# Altium integrated library Logic - Translators, Level Shifters.IntLib: 4 symbols
Pins are listed as number, name and electrical type; pins without a type are passive.

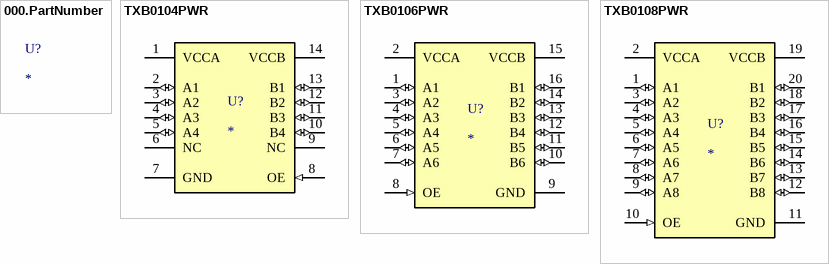
[diagram p0: symbols 000.PartNumber to TXB0108PWR]

## 000.PartNumber
designator U?
Digikey Description; Manufacturer: *; Series: *; Package: *; Translator Type: *; Channel Type: *; Channels per Circuit: *; Input Signal: *; Output Signal: *; Output Type: *; Data Rate: *; Operating Temperature: *; Features: *; Mounting Type: *; Package / Case: *; Supplier Device Package: *; Number of Circuits: *; Voltage - VCCA: *; Voltage - VCCB: *; Base Product Number: *; Ozdisan Link: *; Digikey Link: *; Farnell TR Link: *; Mouser Link: *

## TXB0104PWR
designator U?
IC TRNSLTR BIDIRECTIONAL 14TSSOP; Manufacturer: Texas Instruments; Translator Type: Voltage Level; Channels per Circuit: 4; Output Type: Tri-State, Non-Inverted; Data Rate: 100Mbps; Number of Circuits: 1; Voltage - VCCA: 1.2V ~ 3.6V; Voltage - VCCB: 1.65V ~ 5.5V; Base Product Number: TXB010; Series: -; Package: Tape & Reel (TR); Channel Type: Bidirectional; Input Signal: -; Output Signal: -; Operating Temperature: -40°C ~ 85°C (TA); Features: Auto-Direction Sensing; Mounting Type: Surface Mount; Package / Case: 14-TSSOP (0.173"", 4.40mm Width); Supplier Device Package: 14-TSSOP; Ozdisan Link: https://www.ozdisan.com/entegre-devreler-ics/logic-entegreler/translator-entegreleri/TXB0104PWR; Digikey Link: https://www.digikey.com/en/products/detail/texas-instruments/TXB0104PWR/1629102; Farnell TR Link: https://tr.farnell.com/texas-instruments/txb0104pwr/ic-sm-logic-translator/dp/3120964?st=txb0104pwr; Mouser Link: https://www.mouser.com.tr/ProductDetail/Texas-Instruments/TXB0104PWR?qs=oFXvjAmG9EjSF69GpMWq5w%3D%3D
footprint TI_14-TSSOP
pins: 1 VCCA, 2 A1 (io), 3 A2 (io), 4 A3 (io), 5 A4 (io), 6 NC, 7 GND, 8 OE (in), 9 NC, 10 B4 (io), 11 B3 (io), 12 B2 (io), 13 B1 (io), 14 VCCB

## TXB0106PWR
designator U?
IC TRNSLTR BIDIRECTIONAL 16TSSOP; Manufacturer: Texas Instruments; Translator Type: Voltage Level; Channels per Circuit: 6; Output Type: Tri-State, Non-Inverted; Data Rate: 100Mbps; Number of Circuits: 1; Voltage - VCCA: 1.2V ~ 3.6V; Voltage - VCCB: 1.65V ~ 5.5V; Base Product Number: TXB010; Series: -; Package: Tape & Reel (TR); Channel Type: Bidirectional; Input Signal: -; Output Signal: -; Operating Temperature: -40°C ~ 85°C (TA); Features: Auto-Direction Sensing; Mounting Type: Surface Mount; Package / Case: 16-TSSOP (0.173"", 4.40mm Width); Supplier Device Package: 16-TSSOP; Ozdisan Link: https://ozdisan.com/Product/Detail/381692/TXB0106PWR; Digikey Link: https://www.digikey.com/en/products/detail/texas-instruments/TXB0106PWR/1951119?s=N4IgTCBcDaICoA0BCAGAjCgbABQOoCUQBdAXyA; Farnell TR Link: https://tr.farnell.com/texas-instruments/txb0106pwr/ic-transceiver-vlt-16tssop/dp/3120969?st=txb0106pwr; Mouser Link: https://www.mouser.com.tr/ProductDetail/Texas-Instruments/TXB0106PWR?qs=%2Fha2pyFadui47MUXjdKfhvpa25aK6JdK18Ako%2FXUYzY8AxDAAXq2Cg%3D%3D
footprint TI_16-TSSOP
pins: 1 A1 (io), 2 VCCA, 3 A2 (io), 4 A3 (io), 5 A4 (io), 6 A5 (io), 7 A6 (io), 8 OE (in), 9 GND, 10 B6 (io), 11 B5 (io), 12 B4 (io), 13 B3 (io), 14 B2 (io), 15 VCCB, 16 B1 (io)

## TXB0108PWR
designator U?
IC TRNSLTR BIDIRECTIONAL 20TSSOP; Manufacturer: Texas Instruments; Translator Type: Voltage Level; Channels per Circuit: 8; Output Type: Tri-State, Non-Inverted; Data Rate: 100Mbps; Number of Circuits: 1; Voltage - VCCA: 1.2V ~ 3.6V; Voltage - VCCB: 1.65V ~ 5.5V; Base Product Number: TXB010; Series: -; Package: Tape & Reel (TR); Channel Type: Bidirectional; Input Signal: -; Output Signal: -; Operating Temperature: -40°C ~ 85°C (TA); Features: Auto-Direction Sensing; Mounting Type: Surface Mount; Package / Case: 20-TSSOP (0.173"", 4.40mm Width); Supplier Device Package: 20-TSSOP; Ozdisan Link: https://ozdisan.com/Product/Detail/366154/TXB0108PWR; Digikey Link: https://www.digikey.com/en/products/detail/texas-instruments/TXB0108PWR/1305699; Farnell TR Link: https://tr.farnell.com/texas-instruments/txb0108pwr/ic-translator-8bit-bidirectional/dp/3120973?st=txb0108pwr; Mouser Link: https://www.mouser.com.tr/ProductDetail/Texas-Instruments/TXB0108PWR?qs=oFXvjAmG9EgEUWGWzOVFCA%3D%3D
footprint TI_20-TSSOP
pins: 1 A1 (io), 2 VCCA, 3 A2 (io), 4 A3 (io), 5 A4 (io), 6 A5 (io), 7 A6 (io), 8 A7 (io), 9 A8 (io), 10 OE (in), 11 GND, 12 B8 (io), 13 B7 (io), 14 B6 (io), 15 B5 (io), 16 B4 (io), 17 B3 (io), 18 B2 (io), 19 VCCB, 20 B1 (io)